# Altium schematic symbol library STC12开发板.SCHLIB: 17 symbols
Pins are listed as number, name and electrical type; pins without a type are passive.

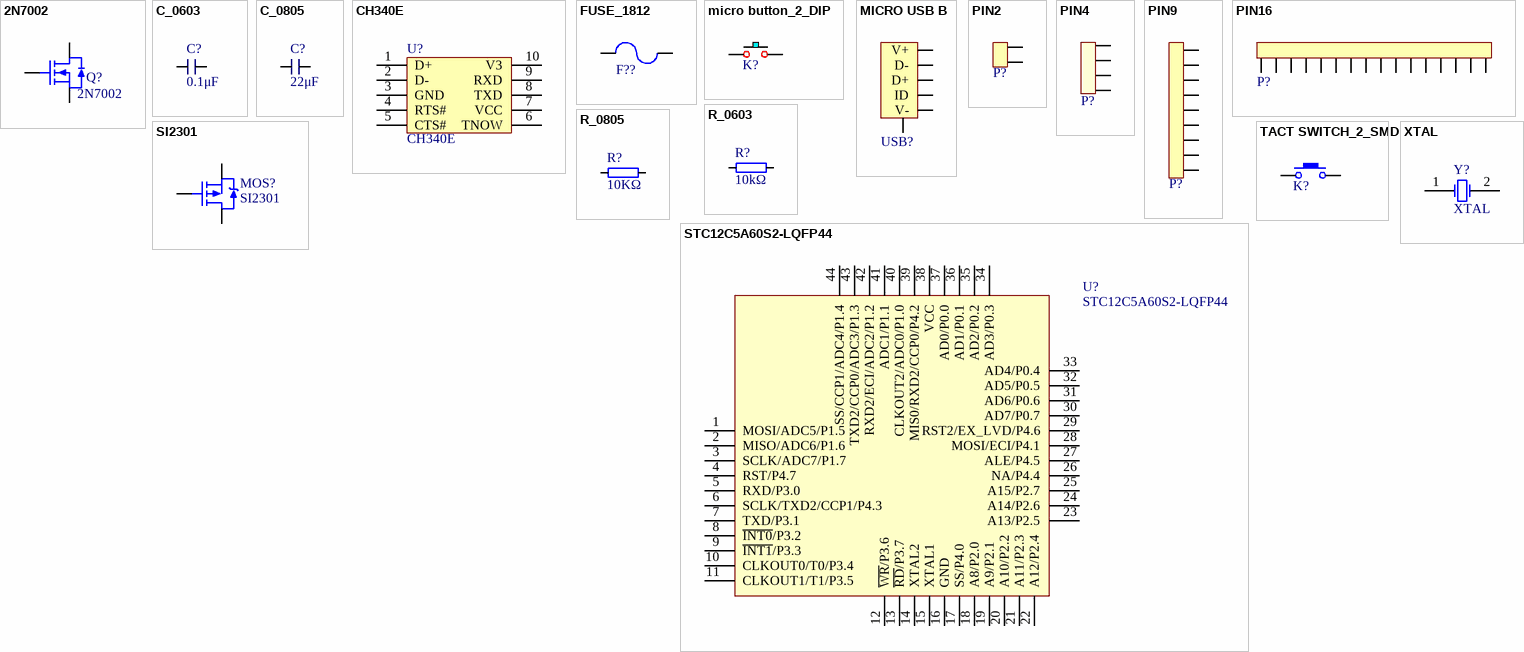
[diagram p0: symbols 2N7002 to XTAL]

## 2N7002
designator Q?
footprint SOT_23_3
pins: 1 G, 2 S, 3 D

## C_0603
designator C?, comment 0.1μF
footprint C_0603
pins: 1, 2

## C_0805
designator C?, comment 22μF
footprint C_0805
pins: 1, 2

## CH340E
designator U?
footprint MSOP_10
pins: 1 D+, 2 D-, 3 GND, 4 RTS#, 5 CTS#, 6 TNOW, 7 VCC, 8 TXD, 9 RXD, 10 V3

## FUSE_1812
designator F??, comment A  (value not drawn)
footprint F_1812
pins: 1, 2

## micro button_2_DIP
designator K?  (value not drawn)
footprint micro button_2_DIP
pins: 1, 2

## MICRO USB B
designator USB?  (value not drawn)
footprint MICRO USB B
pins: 0 GND, 1 V+, 2 D-, 3 D+, 4 ID, 5 V-

## PIN2
designator P?  (value not drawn)
footprint PIN_2
pins: 1, 2

## PIN4
designator P?  (value not drawn)
footprint PIN_4
pins: 1, 2, 3, 4

## PIN9
designator P?  (value not drawn)
footprint PIN_9
pins: 1, 2, 3, 4, 5, 6, 7, 8, 9

## PIN16
designator P?  (value not drawn)
footprint PIN_16
pins: 1, 2, 3, 4, 5, 6, 7, 8, 9, 10, 11, 12, 13, 14, 15, 16

## R_0603
designator R?, comment 10kΩ
footprint R_0603
pins: 1, 2

## R_0805
designator R?, comment 10KΩ
footprint R_0805
pins: 1, 2

## SI2301
designator MOS?
footprint SOT_23_3
pins: 1 G, 2 S, 3 D

## STC12C5A60S2-LQFP44
designator U?
footprint LQFP-44
pins: 1 MOSI/ADC5/P1.5, 2 MISO/ADC6/P1.6, 3 SCLK/ADC7/P1.7, 4 RST/P4.7, 5 RXD/P3.0, 6 SCLK/TXD2/CCP1/P4.3, 7 TXD/P3.1, 8 ~{INT0}/P3.2, 9 ~{INT1}/P3.3, 10 CLKOUT0/T0/P3.4, 11 CLKOUT1/T1/P3.5, 12 ~{WR}/P3.6, 13 ~{RD}/P3.7, 14 XTAL2, 15 XTAL1, 16 GND, 17 SS/P4.0, 18 A8/P2.0, 19 A9/P2.1, 20 A10/P2.2, 21 A11/P2.3, 22 A12/P2.4, 23 A13/P2.5, 24 A14/P2.6, 25 A15/P2.7, 26 NA/P4.4, 27 ALE/P4.5, 28 MOSI/ECI/P4.1, 29 RST2/EX_LVD/P4.6, 30 AD7/P0.7, 31 AD6/P0.6, 32 AD5/P0.5, 33 AD4/P0.4, 34 AD3/P0.3, 35 AD2/P0.2, 36 AD1/P0.1, 37 AD0/P0.0, 38 VCC, 39 MIS0/RXD2/CCP0/P4.2, 40 CLKOUT2/ADC0/P1.0, 41 ADC1/P1.1, 42 RXD2/ECI/ADC2/P1.2, 43 TXD2/CCP0/ADC3/P1.3, 44 SS/CCP1/ADC4/P1.4

## TACT SWITCH_2_SMD
designator K?  (value not drawn)
footprint TACT SWITCH_2_SMD
pins: 1, 2

## XTAL
designator Y?
Crystal Oscillator; Published: 8-Jun-2000; LatestRevisionDate: 17-Jul-2002; LatestRevisionNote: Re-released for DXP Platform.; PackageReference: R38; Publisher: Altium Limited; PackageDescription: Crystal, Thru-Hole; 2 Leads; Body 3.1 x 8.2 mm (Dia.xH)
footprint R38 (Crystal, Thru-Hole; 2 Leads; Body 3.1 x 8.2 mm (Dia.xH))
simulation model XTAL (Spice Subcircuit)
pins: 1 OSC1, 2 OSC2